# Altium footprint library SMC.PcbLib: 1 footprints
Each footprint in its own frame and in the unit in brackets; x right, y up, seen from the top. Pads: shape width x height; smd on the part's side, far side on the other; paste and mask are expansions set on the pad; w line width, h text height; cw(c..) or ccw(c..) is an arc to the next point about the centre after c.
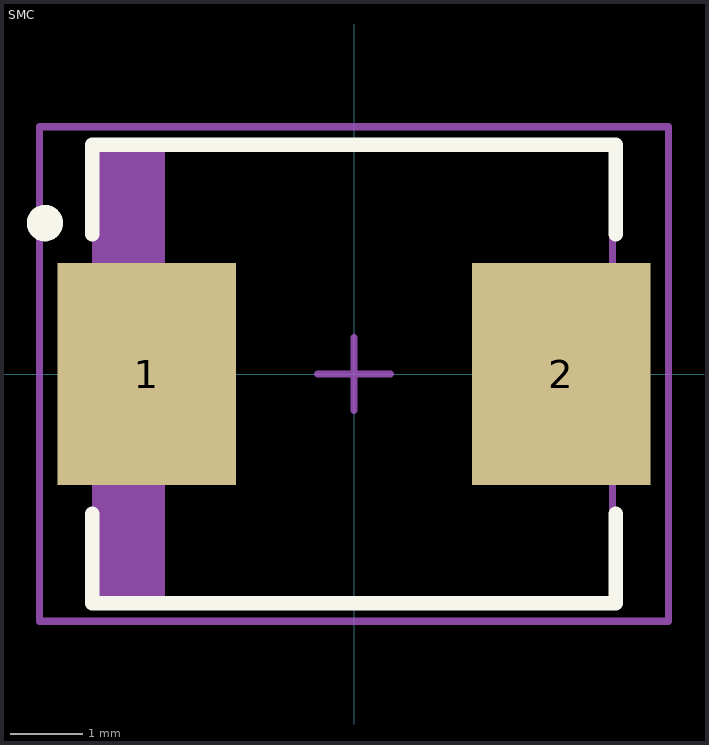
[diagram p0: the footprint, top view; thin cyan lines are the x and y axes]

## SMC [mm] "Molded Diode, 2-Leads, Body 6.9x5.9mm, IPC Medium Density"
height 2.62
pads (2):
  rect 2.45x3.05 smd: 1(-2.85,0) 2(2.85,0)
Top Overlay:
  circle w0.25: c-4.25,2.075 r0.125
  lines w0.2: -3.6,-1.925 -3.6,-3.15 3.6,-3.15 3.6,-1.925 ; -3.6,1.925 -3.6,3.15 3.6,3.15 3.6,1.925
Mechanical 13:
  rectangle: -3.555,-3.11 -2.599,3.11
  lines w0.1: -3.555,-3.11 -3.555,3.11 3.555,3.11 3.555,-3.11 -3.555,-3.11
Mechanical 15:
  lines w0.1: -0.5,0 0.5,0 ; 0,-0.5 0,0.5 ; -4.325,-3.4 -4.325,3.4 4.325,3.4 4.325,-3.4 -4.325,-3.4
3D body: height 2.62, standoff 0, extent -3.555,-3.11 3.555,3.11